# EAGLE library part MAX320CPA+ (library Neel)
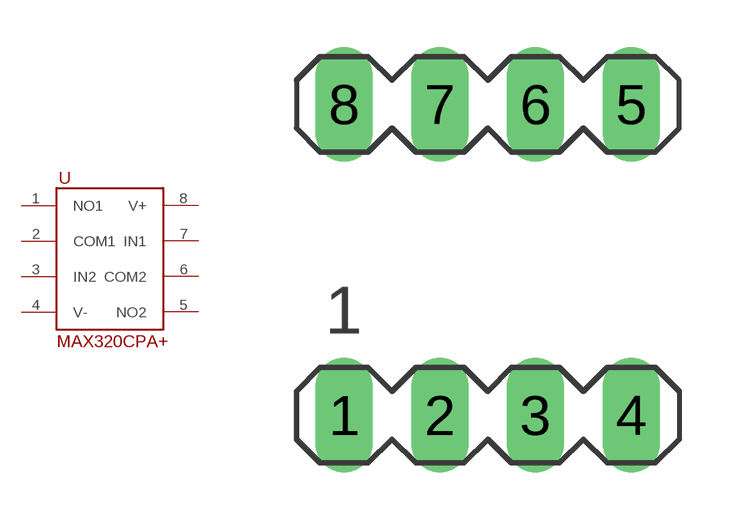
[diagram p5: symbol with the pads of DIP-8; footprint DIP-8]

Designator prefix -

## MAX320CPA+  [DIP-8]
1  NO1
2  COM1
3  IN2
4  V-
5  NO2
6  COM2
7  IN1
8  V+

## Footprint DIP-8 (pad centres in mm)
drill 1.016 long: 1 -3.81,-3.81; 2 -1.27,-3.81; 3 1.27,-3.81; 4 3.81,-3.81; 5 3.81,4.445; 6 1.27,4.445; 7 -1.27,4.445; 8 -3.81,4.445